# EAGLE library part FDG8842CZ (library transistor-fet)
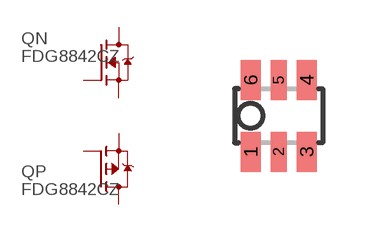
[diagram p5: symbol with the pads of SC70; footprint SC70]

Designator prefix Q; gates N=N-MOSFET P=P-MOSFET

## FDG8842CZ  [SC70]
1  N:S  pas
2  N:G  pas
3  P:D  pas
4  P:S  pas
5  P:G  pas
6  N:D  pas

## Footprint SC70 (pad centres in mm)
smd 0.5 x 1: 1 -0.7,-0.9; 3 0.7,-0.9; 4 0.7,0.9; 6 -0.7,0.9
smd 0.4 x 1: 2 0,-0.9; 5 0,0.9